# EAGLE library part 4PDT (library mb3_switches)
4PDT Switches
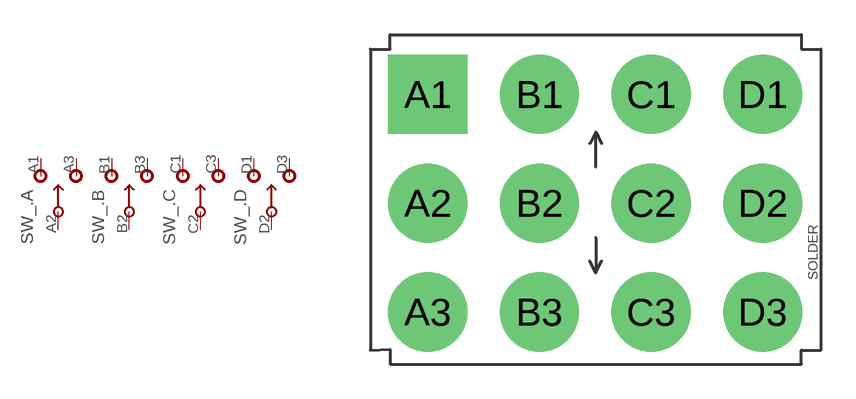
[diagram p6: symbol with the pads of 4PDT.TOGGLE; footprint 4PDT.TOGGLE]

Designator prefix SW_; gates .A=SPDT .B=SPDT .C=SPDT .D=SPDT

## 4PDT  [4PDT.TOGGLE]
A1  .A:1  pas
A2  .A:2  pas
A3  .A:3  pas
B1  .B:1  pas
B2  .B:2  pas
B3  .B:3  pas
C1  .C:1  pas
C2  .C:2  pas
C3  .C:3  pas
D1  .D:1  pas
D2  .D:2  pas
D3  .D:3  pas

## Footprint 4PDT.TOGGLE (pad centres in mm)
Toggle Switch, Solder Lugs http://smallbear-electronics.mybigcommerce.com/4pdt-on-on/
drill 2.4 square: A1 -7.26,4.66
drill 2.4: A2 -7.26,-0.039; A3 -7.26,-4.738; B1 -2.434,4.66; B2 -2.434,-0.039; B3 -2.434,-4.738; C1 2.392,4.66; C2 2.392,-0.039; C3 2.392,-4.738; D1 7.218,4.66; D2 7.218,-0.039; D3 7.218,-4.738